# Altium schematic symbol library Miscellaneous Devices_.SchLib: 81 symbols
Pins are listed as number, name and electrical type; pins without a type are passive.

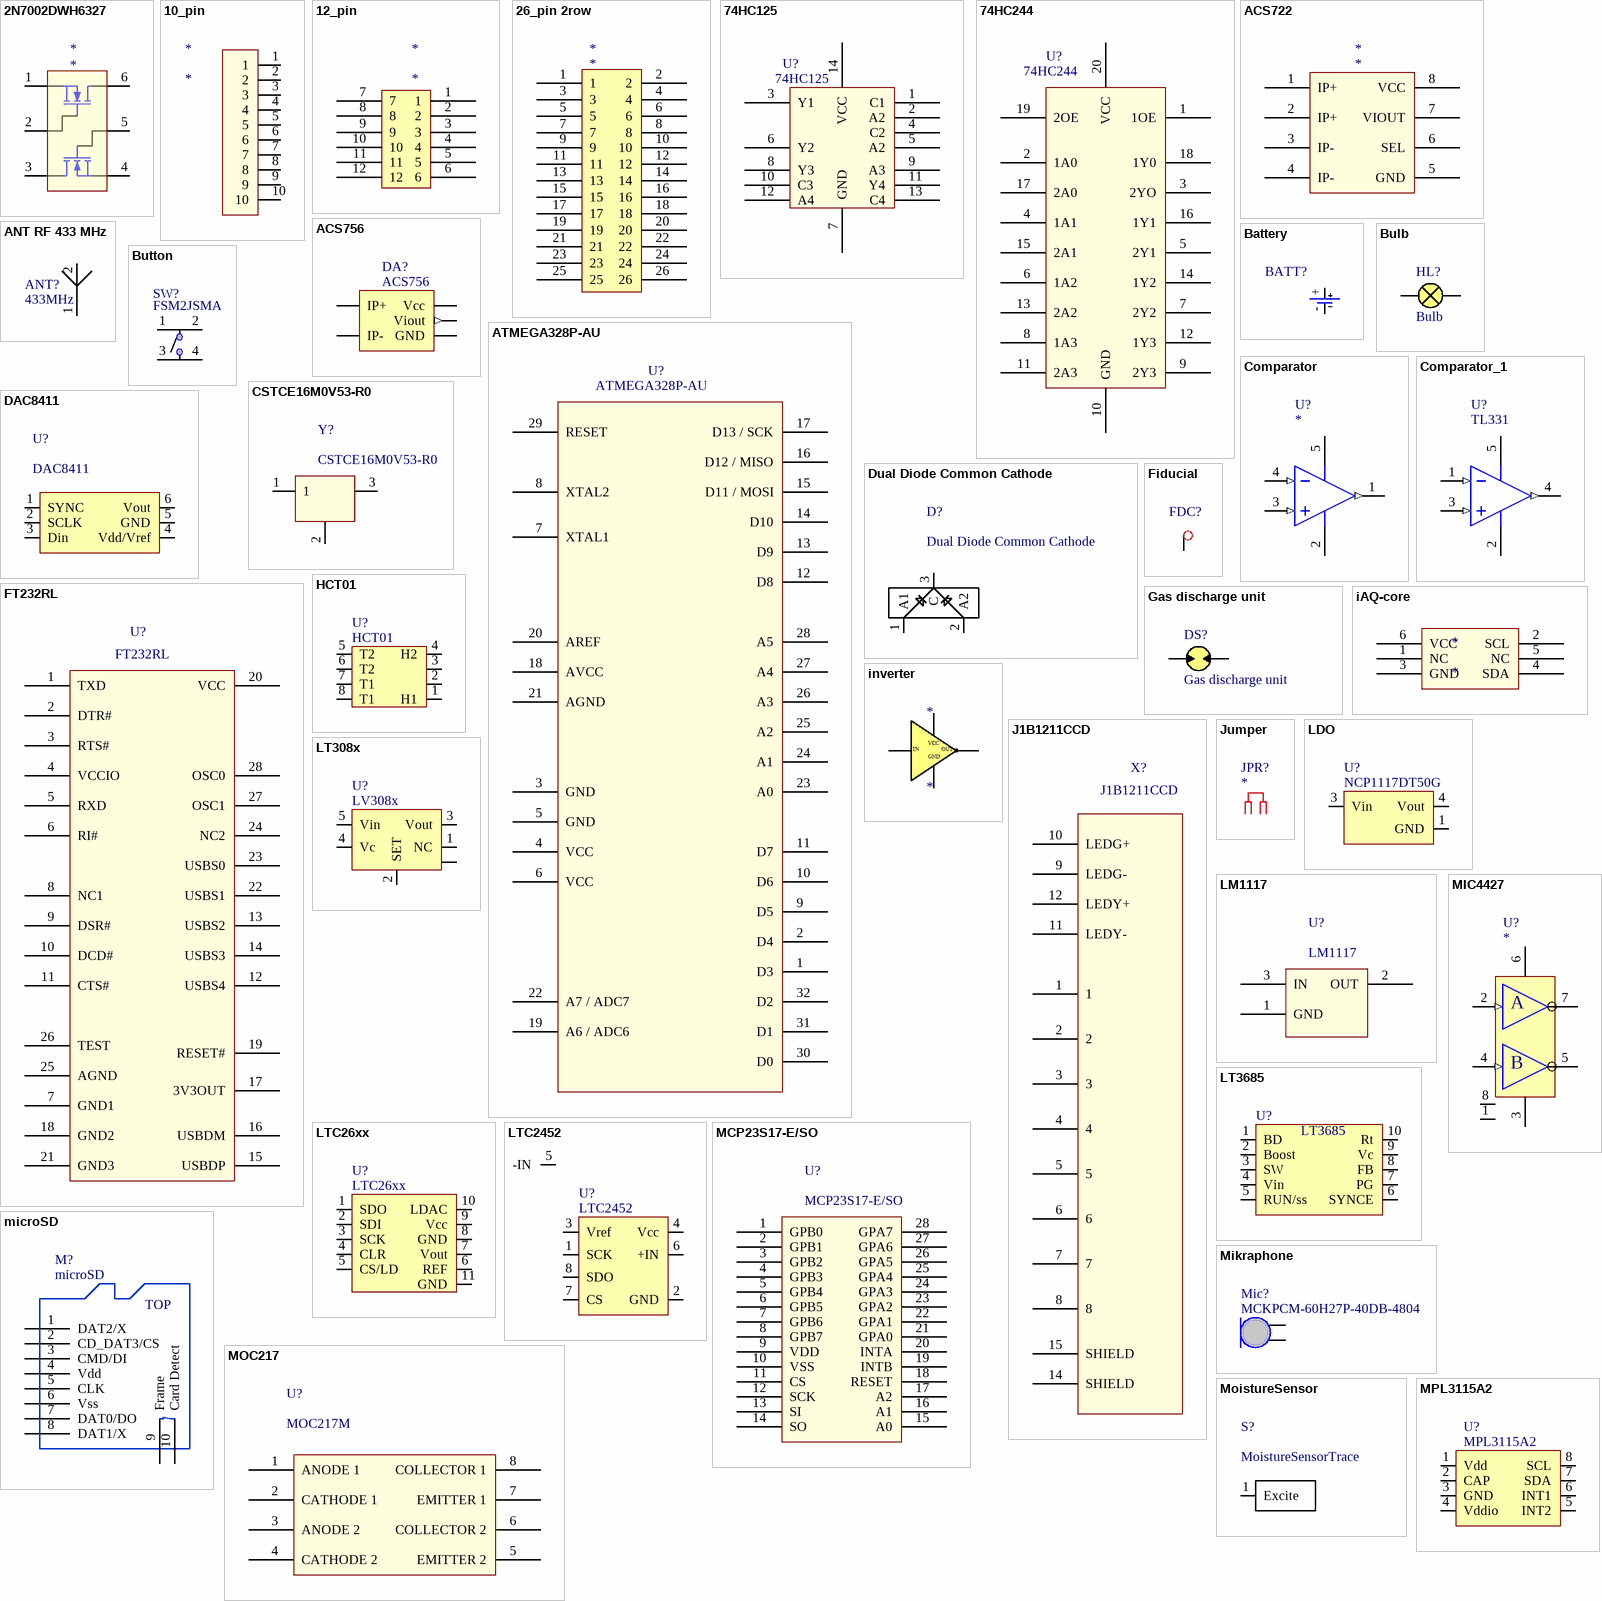
[diagram p0: symbols 2N7002DWH6327 to MPL3115A2]

## 2N7002DWH6327
designator *
pins: 1, 2, 3, 4, 5, 6

## 10_pin
designator *
pins: 1, 2, 3, 4, 5, 6, 7, 8, 9, 10

## 12_pin
designator *
pins: 1, 2, 3, 4, 5, 6, 7, 8, 9, 10, 11, 12

## 26_pin 2row
designator *
pins: 1, 2, 3, 4, 5, 6, 7, 8, 9, 10, 11, 12, 13, 14, 15, 16, 17, 18, 19, 20, 21, 22, 23, 24, 25, 26

## 74HC125
designator U?
pins: 1 C1, 2 A2, 3 Y1, 4 C2, 5 A2, 6 Y2, 7 GND, 8 Y3, 9 A3, 10 C3, 11 Y4, 12 A4, 13 C4, 14 VCC

## 74HC244
designator U?
pins: 1 1OE, 2 1A0, 3 2YO, 4 1A1, 5 2Y1, 6 1A2, 7 2Y2, 8 1A3, 9 2Y3, 10 GND, 11 2A3, 12 1Y3, 13 2A2, 14 1Y2, 15 2A1, 16 1Y1, 17 2A0, 18 1Y0, 19 2OE, 20 VCC

## ACS722
designator *
pins: 1 IP+, 2 IP+, 3 IP-, 4 IP-, 5 GND, 6 SEL, 7 VIOUT, 8 VCC

## ACS756
designator DA?
Catalog: Farnell; Catalog page: *; Price: *
footprint ACS756
pins: 1 Vcc (power), 2 GND (power), 3 Viout (out), 4 IP+, 5 IP-

## ANT RF 433 MHz
designator ANT?, comment 433MHz
footprint ANT RF 433 MHz
pins: 1, 2

## ATMEGA328P-AU
designator U?
pins: 1 D3, 2 D4, 3 GND, 4 VCC, 5 GND, 6 VCC, 7 XTAL1, 8 XTAL2, 9 D5, 10 D6, 11 D7, 12 D8, 13 D9, 14 D10, 15 D11 / MOSI, 16 D12 / MISO, 17 D13 / SCK, 18 AVCC, 19 A6 / ADC6, 20 AREF, 21 AGND, 22 A7 / ADC7, 23 A0, 24 A1, 25 A2, 26 A3, 27 A4, 28 A5, 29 RESET, 30 D0, 31 D1, 32 D2

## Battery
designator BATT?  (value not drawn)
Value: *; Price: *; Catalog: *; Catalog number: *
footprint Battery A
pins: + 1, - 2

## Bulb
designator HL?
pins: 0, 1

## Button
designator SW?, comment FSM2JSMA
Pushbutton Switches; Value: FSM2JSMA; Price: *; Catalog: *
footprint FSM2JSMA (tactile Button)
pins: 1, 2, 3, 4

## Comparator
designator U?
Value: NCX2200GW; Catalog: Farnell; Catalog number: 2164804; Catalog page: *; Price: *
footprint SOT353-5AM
pins: 1 OUT (out), 2 -VS (power), 3 +IN (in), 4 -IN (in), 5 +VS (power)

## Comparator_1
designator U?, comment TL331
Value: TL331IDBVR; Catalog: Farnell; Catalog number: 1470409; Catalog page: *; Price: *
footprint SOT23-5AM (SOT23, 5-Leads, Body 2.9x1.7mm, Pitch 0.95mm, Lead Span 2.8mm, IPC Low Density)
pins: 1 -IN (in), 2 -VS (power), 3 +IN (in), 4 OUT (out), 5 +VS (power)

## CSTCE16M0V53-R0
designator Y?
pins: 1, 2, 3

## DAC8411
designator U?
footprint R-PDSO-G6
pins: 1 SYNC, 2 SCLK, 3 Din, 4 Vdd/Vref, 5 GND, 6 Vout

## Dual Diode Common Cathode
designator D?
footprint SOT23-3-IPC (SOT23, 3-Leads, Body 2.9x1.3mm, Pitch 0.95mm, Lead Span 2.5mm, IPC Recommended)
pins: 1 A1, 2 A2, 3 C

## Fiducial
designator FDC?  (value not drawn)
footprint Fiducial 1mm
pins: 1 FDC?

## FT232RL
designator U?
pins: 1 TXD, 2 DTR#, 3 RTS#, 4 VCCIO, 5 RXD, 6 RI#, 7 GND1, 8 NC1, 9 DSR#, 10 DCD#, 11 CTS#, 12 USBS4, 13 USBS2, 14 USBS3, 15 USBDP, 16 USBDM, 17 3V3OUT, 18 GND2, 19 RESET#, 20 VCC, 21 GND3, 22 USBS1, 23 USBS0, 24 NC2, 25 AGND, 26 TEST, 27 OSC1, 28 OSC0

## Gas discharge unit
designator DS?
pins: 0, 1

## HCT01
designator U?
Value: HCT01; Price: *; Catalog: *; Catalog number: *
footprint HC109
pins: 1 H1, 2 H, 3 H, 4 H2, 5 T2, 6 T2, 7 T1, 8 T1

## iAQ-core
designator *
pins: 1 NC, 2 SCL, 3 GND, 4 SDA, 5 NC, 6 VCC

## inverter
designator *
pins: 2 IN, 3 GND, 4 OUT, 5 VCC

## J1B1211CCD
designator X?
pins: 1, 2, 3, 4, 5, 6, 7, 8, 9 LEDG-, 10 LEDG+, 11 LEDY-, 12 LEDY+, 14 SHIELD, 15 SHIELD

## Jumper
designator JPR?
Jumper; Price: *; Catalog: *; Catalog number: *; Value: *

## LDO
designator U?, comment NCP1117DT50G
ON SEMICONDUCTOR - NCP1117DT50G - LDO, 1.2VDO, 1A, 5V, 3DPAK; Catalog: Farnell; Catalog number: 2296057; Price: 0,267; Value: NCP1117DT50G
footprint DPAK_3 (D-PAK, 3-Pads, Body 6,2x6,7mm (max), IPC Medium Density)
pins: 1 GND, 3 Vin, 4 Vout

## LM1117
designator U?
pins: 1 GND, 2 OUT, 3 IN

## LT308x
designator U?, comment LV308x
Catalog: *; Catalog number: *; Catalog page: *; Price: *
pins: 1 NC, 2 SET, 3 Vout, 4 Vc, 5 Vin, 6 Tab

## LT3685
designator U?
pins: 1 BD, 2 Boost, 3 SW, 4 Vin, 5 RUN/ss, 6 SYNCE, 7 PG, 8 FB, 9 Vc, 10 Rt

## LTC26xx
designator U?
Catalog: Farnell; Catalog number: 1330945; Value: LTC2611CDD#PBF; Price: 2.21; Catalog page: http://lv.farnell.com/linear-technology/ltc2611cdd-pbf/ic-sm-dac-14-bit/dp/1330945
footprint DFN-10
pins: 1 SDO, 2 SDI, 3 SCK, 4 CLR, 5 CS/LD, 6 REF, 7 Vout, 8 GND, 9 Vcc, 10 LDAC, 11 GND

## LTC2452
designator U?
Value: *; Catalog: *; Catalog number: *; Price: *; Catalog page: *
footprint TSOT-23 8 Leads
pins: 1 SCK, 2 GND, 3 Vref, 4 Vcc, 5 -IN, 6 +IN, 7 CS, 8 SDO

## MCP23S17-E/SO
designator U?
pins: 1 GPB0, 2 GPB1, 3 GPB2, 4 GPB3, 5 GPB4, 6 GPB5, 7 GPB6, 8 GPB7, 9 VDD, 10 VSS, 11 CS, 12 SCK, 13 SI, 14 SO, 15 A0, 16 A1, 17 A2, 18 RESET, 19 INTB, 20 INTA, 21 GPA0, 22 GPA1, 23 GPA2, 24 GPA3, 25 GPA4, 26 GPA5, 27 GPA6, 28 GPA7

## MIC4427
designator U?
footprint SOIC-SN8_L (SOIC, 8-Leads, Body 4.9x3.9mm, Pitch 1.27mm, IPC High Density)
pins: 1 NC (hiz), 2 A (in), 3 GND (hiz), 4 A (in), 5 Y (hiz), 6 Vs (hiz), 7 Y (hiz), 8 NC (hiz)
text: B

## microSD
designator M?
footprint microSD 693071010811 (microSD holder push-push 693071010811 from Wurth Elektronik)
pins: 1 DAT2/X, 2 CD_DAT3/CS, 3 CMD/DI, 4 Vdd, 5 CLK, 6 Vss, 7 DAT0/DO, 8 DAT1/X, 9 Frame, 10 Card Detect
text: TOP

## Mikraphone
designator Mic?, comment MCKPCM-60H27P-40DB-4804
Catalog: Farnell; Catalog page: 2135925; Value: MCKPCM-60H27P-40DB-4804; Price: 0.364
footprint MCKPCM-60H50-40DB-4805
pins: 1 +, 2 GND

## MOC217
designator U?, comment MOC217M
pins: 1 ANODE 1, 2 CATHODE 1, 3 ANODE 2, 4 CATHODE 2, 5 EMITTER 2, 6 COLLECTOR 2, 7 EMITTER 1, 8 COLLECTOR 1

## MoistureSensor
designator S?, comment MoistureSensorTrace  (no BOM)
footprint MoistureSenorTrace
pins: 1 Excite

## MPL3115A2
designator U?
Catalog: Farnell; Catalog number: 2009084; Value: MPL3115A2; Price: 1.81; Catalog page: http://lv.farnell.com/freescale-semiconductor/mpl3115a2/pressure-sensor-20-110kpa-8lga/dp/2009084
footprint MPL3115A2
pins: 1 Vdd, 2 CAP, 3 GND, 4 Vddio, 5 INT2, 6 INT1, 7 SDA, 8 SCL

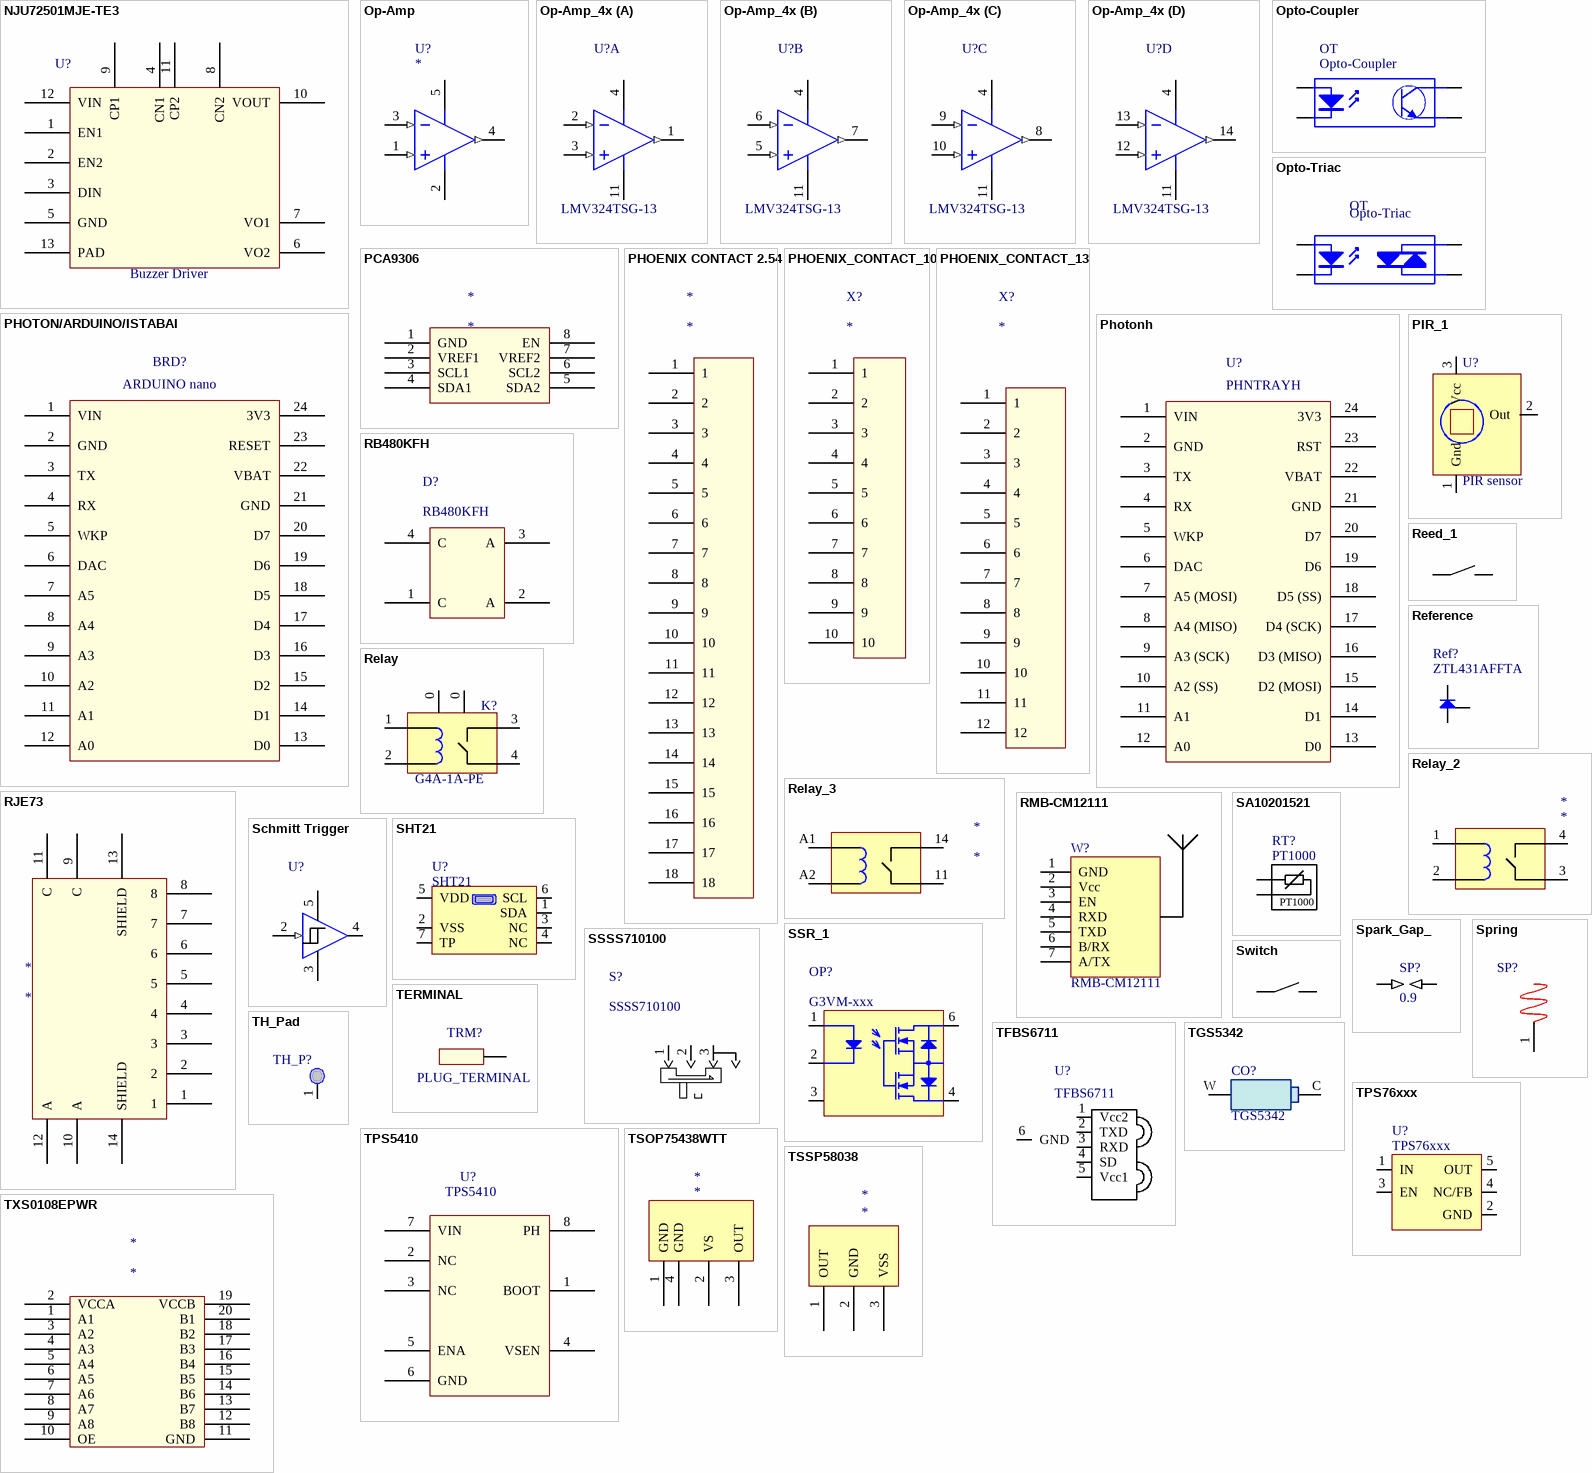
[diagram p1: symbols NJU72501MJE-TE3 to TXS0108EPWR]

## NJU72501MJE-TE3
designator U?, comment Buzzer Driver
footprint QFN-12 (QFN, 12-Leads, Body 3,00x3,00mm, Pitch 0,50mm, Thermal Pad 1,41x1,41mm, IPC Medium Density)
pins: 1 EN1, 2 EN2, 3 DIN, 4 CN1, 5 GND, 6 VO2, 7 VO1, 8 CN2, 9 CP1, 10 VOUT, 11 CP2, 12 VIN, 13 PAD

## Op-Amp
designator U?
LMV321; Value: LMV321SEG-7; Catalog: Farnell; Catalog number: 1904046; Catalog page: *; Price: *
footprint SOT353-5AM
pins: 1 +IN (in), 2 -VS (power), 3 -IN (in), 4 OUT (out), 5 +VS (power)

## Op-Amp_4x
designator U?  value LMV324TSG-13  (hidden comment: *)
LMV324; Catalog: Farnell; Catalog number: 1904051; Catalog page: *; Price: *
footprint TSSOP-14 PICH 0.65
part A pins: 1 A_OUT (out), 2 A_-IN (in), 3 A_+IN (in), 4 +VS (power), 11 -VS (power)
part B pins: 4 +VS (power), 5 B_+IN (in), 6 B_-IN (in), 7 B_OUT (out), 11 -VS (power)
part C pins: 4 +VS (power), 8 C_OUT (out), 9 C_-IN (in), 10 C_+IN (in), 11 -VS (power)
part D pins: 4 +VS (power), 11 -VS (power), 12 D_+IN (in), 13 D_-IN (in), 14 D_OUT (out)

## Opto-Coupler
designator OT
Price: *; Catalog: *; Catalog page: *; Value: *
footprint FODM30xx
pins: 1 A, 2 C, 3 E, 4 C

## Opto-Triac
designator OT
Price: *; Catalog: *; Catalog page: *; Value: *
footprint FODM30xx
pins: A, C K, MT1 A/K, MT2 A/K

## PCA9306
designator *
pins: 1 GND, 2 VREF1, 3 SCL1, 4 SDA1, 5 SDA2, 6 SCL2, 7 VREF2, 8 EN

## PHOENIX CONTACT 2.54
designator *
pins: 1, 2, 3, 4, 5, 6, 7, 8, 9, 10, 11, 12, 13, 14, 15, 16, 17, 18

## PHOENIX_CONTACT_10
designator X?
pins: 1, 2, 3, 4, 5, 6, 7, 8, 9, 10

## PHOENIX_CONTACT_13
designator X?
pins: 1, 2, 3, 4, 5, 6, 7, 8, 9, 10, 11, 12

## PHOTON/ARDUINO/ISTABAI
designator BRD?, comment ARDUINO nano
pins: 1 VIN, 2 GND, 3 TX, 4 RX, 5 WKP, 6 DAC, 7 A5, 8 A4, 9 A3, 10 A2, 11 A1, 12 A0, 13 D0, 14 D1, 15 D2, 16 D3, 17 D4, 18 D5, 19 D6, 20 D7, 21 GND, 22 VBAT, 23 RESET, 24 3V3

## Photonh
designator U?, comment PHNTRAYH
pins: 1 VIN, 2 GND, 3 TX, 4 RX, 5 WKP, 6 DAC, 7 A5 (MOSI), 8 A4 (MISO), 9 A3 (SCK), 10 A2 (SS), 11 A1, 12 A0, 13 D0, 14 D1, 15 D2 (MOSI), 16 D3 (MISO), 17 D4 (SCK), 18 D5 (SS), 19 D6, 20 D7, 21 GND, 22 VBAT, 23 RST, 24 3V3

## PIR_1
designator U?, comment PIR sensor
footprint PIR sensor
pins: 1 Gnd, 2 Out, 3 Vcc (power)

## RB480KFH
designator D?
pins: 1 C, 2 A, 3 A, 4 C

## Reed_1
designator SW?, comment Reed  (value not drawn)
footprint Reed_1
pins: 0, 1

## Reference
designator Ref?, comment ZTL431AFFTA
Catalog number: 1461557; Catalog: Farnell; Value: ZTL431AFFTA; Price: 0.108
footprint SOT23-3L (SOT23, 3-Leads, Body 2.9x1.3mm, Pitch 0.95mm, Lead Span 2.5mm, IPC High Density)
pins: 1 C, 2 Ref, 3 A

## Relay
designator G4A-1A-PE, comment K?
pins: 0, 0, 1, 2, 3, 4

## Relay_2
designator *
pins: 1, 2, 3, 4

## Relay_3
designator *
pins: 11, 14, A1, A2

## RJE73
designator *
pins: 1, 2, 3, 4, 5, 6, 7, 8, 9 C, 10 A, 11 C, 12 A, 13 SHIELD, 14 SHIELD

## RMB-CM12111
designator W?
Wireless RF Transceiver 431-470MHz
footprint RMB-CM12111 (Wireless RF Transceiver 431-470MHz)
pins: 1 GND, 2 Vcc, 3 EN, 4 RXD, 5 TXD, 6 B/RX, 7 A/TX

## SA10201521
designator RT?, comment PT1000
Manufacturer: CYNTEC CO; Part Number: SA10201521; Price 1: 3; Price 100: 2.4; Price 1000: 2.01
footprint SA10201521
pins: 1, 2

## Schmitt Trigger
designator U?  (value not drawn)
Catalog: Farnell; Catalog number: 1893834; Value: 74LVC1G17; Catalog page: *
footprint SOT353-5AM
pins: 2 A (in), 3 GND (power), 4 Y (hiz), 5 Vcc (power)

## SHT21
designator U?
Catalog: Farnell; Value: SHT21; Catalog number: *; Price: *
footprint SHT21
footprint SHT21 - V2 (SHT21)
pins: 1 SDA, 2 VSS, 3 NC, 4 NC, 5 VDD, 6 SCL, 7 TP

## Spark_Gap_
designator SP?, comment 0.9
footprint Sark_Gap_0.9mm (Sark_Gap_0.7mm)
pins: 1, 2

## Spring
designator SP?  (value not drawn)
Value: Spring
footprint Spring 1
pins: 1

## SSR_1
designator OP?, comment G3VM-xxx
Catalog: *; Price: *; Catalog number: *; Catalog page: http://lv.farnell.com/omron-electronic-components/g3vm-61er/ssr-mosfet-60v-2-5a/dp/1690252
footprint G3VM-xxx
pins: 1 16, 2 17, 3 17, 4 D, 6 D

## SSSS710100
designator S?
Catalog: *; Value: SSSS710100; Catalog page: *; Price: *; Catalog number: SSSS710100
footprint SSSS7xxxx
pins: 1, 2, 3, 4

## Switch
designator SW?  (value not drawn)
pins: 0, 1

## TERMINAL
designator PLUG_TERMINAL, comment TRM?
pins: 1

## TFBS6711
designator U?
Catalog: Farnell; Catalog number: 1328405RL; Catalog page: http://lv.farnell.com/vishay/tfbs6711-tr1/transceiver-irda/dp/1328405RL; Price: 3.66; Value: TFBS6711
footprint TFBS6711 H (TFBS6711)
footprint TFBS6711 V (TFBS6711)
pins: 1 Vcc2, 2 TXD, 3 RXD, 4 SD, 5 Vcc1, 6 GND

## TGS5342
designator CO?, comment value TGS5342  (hidden comment: CO sensor)
electrochemical CO sensor
pins: C 2, W 1

## TH_Pad
designator TH_P?  (value not drawn)
footprint MH 1.0X1.6
pins: 1

## TPS76xxx
designator U?
Catalog: *; Catalog page: *; Catalog number: *; Price: *; Value: TPS76xxx
footprint SOT23-5AM (SOT23, 5-Leads, Body 2.9x1.7mm, Pitch 0.95mm, Lead Span 2.8mm, IPC Low Density)
pins: 1 IN, 2 GND, 3 EN, 4 NC/FB, 5 OUT

## TPS5410
designator U?
pins: 1 BOOT, 2 NC, 3 NC, 4 VSEN, 5 ENA, 6 GND, 7 VIN, 8 PH

## TSOP75438WTT
designator *
pins: 1 GND, 2 VS, 3 OUT, 4 GND

## TSSP58038
designator *
pins: 1 OUT, 2 GND, 3 VSS

## TXS0108EPWR
designator *
pins: 1 A1, 2 VCCA, 3 A2, 4 A3, 5 A4, 6 A5, 7 A6, 8 A7, 9 A8, 10 OE, 11 GND, 12 B8, 13 B7, 14 B6, 15 B5, 16 B4, 17 B3, 18 B2, 19 VCCB, 20 B1

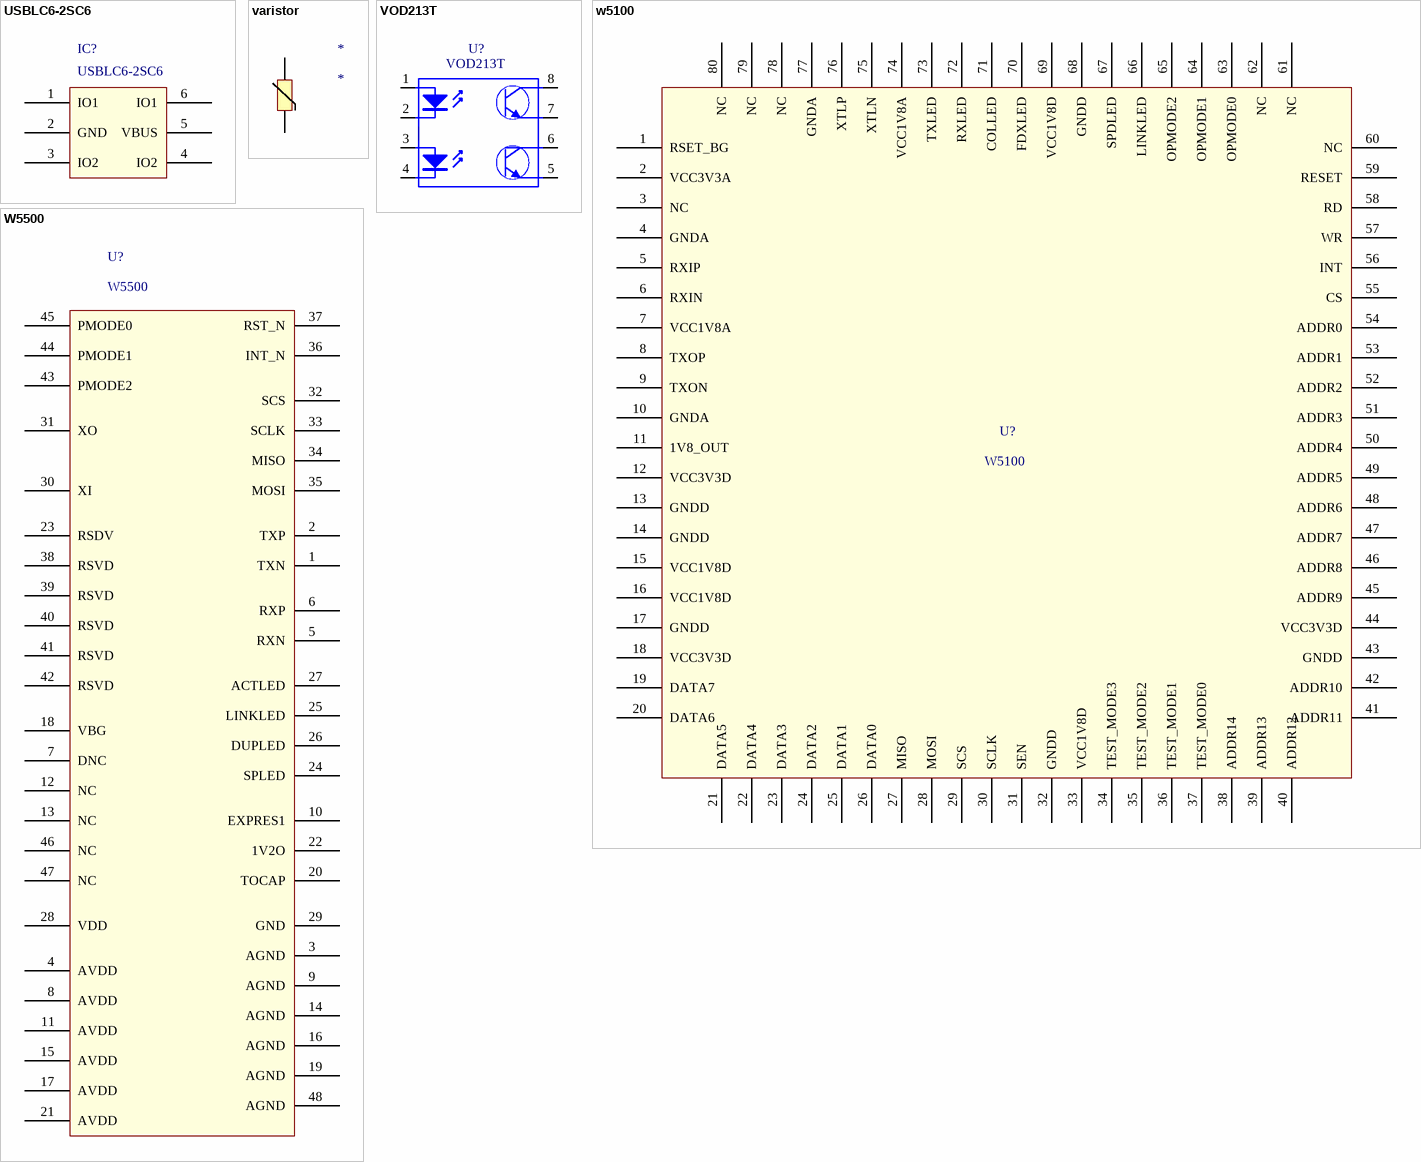
[diagram p2: symbols USBLC6-2SC6 to W5500]

## USBLC6-2SC6
designator IC?
pins: 1 IO1, 2 GND, 3 IO2, 4 IO2, 5 VBUS, 6 IO1

## varistor
designator *
pins: 1, 2

## VOD213T
designator U?
pins: 1 A, 2 C, 3 A, 4 C, 5 E, 6 C, 7 E, 8 C

## w5100
designator U?, comment W5100
pins: 1 RSET_BG, 2 VCC3V3A, 3 NC, 4 GNDA, 5 RXIP, 6 RXIN, 7 VCC1V8A, 8 TXOP, 9 TXON, 10 GNDA, 11 1V8_OUT, 12 VCC3V3D, 13 GNDD, 14 GNDD, 15 VCC1V8D, 16 VCC1V8D, 17 GNDD, 18 VCC3V3D, 19 DATA7, 20 DATA6, 21 DATA5, 22 DATA4, 23 DATA3, 24 DATA2, 25 DATA1, 26 DATA0, 27 MISO, 28 MOSI, 29 SCS, 30 SCLK, 31 SEN, 32 GNDD, 33 VCC1V8D, 34 TEST_MODE3, 35 TEST_MODE2, 36 TEST_MODE1, 37 TEST_MODE0, 38 ADDR14, 39 ADDR13, 40 ADDR12, 41 ADDR11, 42 ADDR10, 43 GNDD, 44 VCC3V3D, 45 ADDR9, 46 ADDR8, 47 ADDR7, 48 ADDR6, 49 ADDR5, 50 ADDR4, 51 ADDR3, 52 ADDR2, 53 ADDR1, 54 ADDR0, 55 CS, 56 INT, 57 WR, 58 RD, 59 RESET, 60 NC, 61 NC, 62 NC, 63 OPMODE0, 64 OPMODE1, 65 OPMODE2, 66 LINKLED, 67 SPDLED, 68 GNDD, 69 VCC1V8D, 70 FDXLED, 71 COLLED, 72 RXLED, 73 TXLED, 74 VCC1V8A, 75 XTLN, 76 XTLP, 77 GNDA, 78 NC, 79 NC, 80 NC

## W5500
designator U?
pins: 1 TXN, 2 TXP, 3 AGND, 4 AVDD, 5 RXN, 6 RXP, 7 DNC, 8 AVDD, 9 AGND, 10 EXPRES1, 11 AVDD, 12 NC, 13 NC, 14 AGND, 15 AVDD, 16 AGND, 17 AVDD, 18 VBG, 19 AGND, 20 TOCAP, 21 AVDD, 22 1V2O, 23 RSDV, 24 SPLED, 25 LINKLED, 26 DUPLED, 27 ACTLED, 28 VDD, 29 GND, 30 XI, 31 XO, 32 SCS, 33 SCLK, 34 MISO, 35 MOSI, 36 INT_N, 37 RST_N, 38 RSVD, 39 RSVD, 40 RSVD, 41 RSVD, 42 RSVD, 43 PMODE2, 44 PMODE1, 45 PMODE0, 46 NC, 47 NC, 48 AGND